# Altium footprint library Connector_PinSocket_2.54mm.PcbLib: 278 footprints (part 14 of 18)
Each footprint in its own frame and in the unit in brackets; x right, y up, seen from the top. Pads: shape width x height; smd on the part's side, far side on the other; paste and mask are expansions set on the pad; w line width, h text height; cw(c..) or ccw(c..) is an arc to the next point about the centre after c.
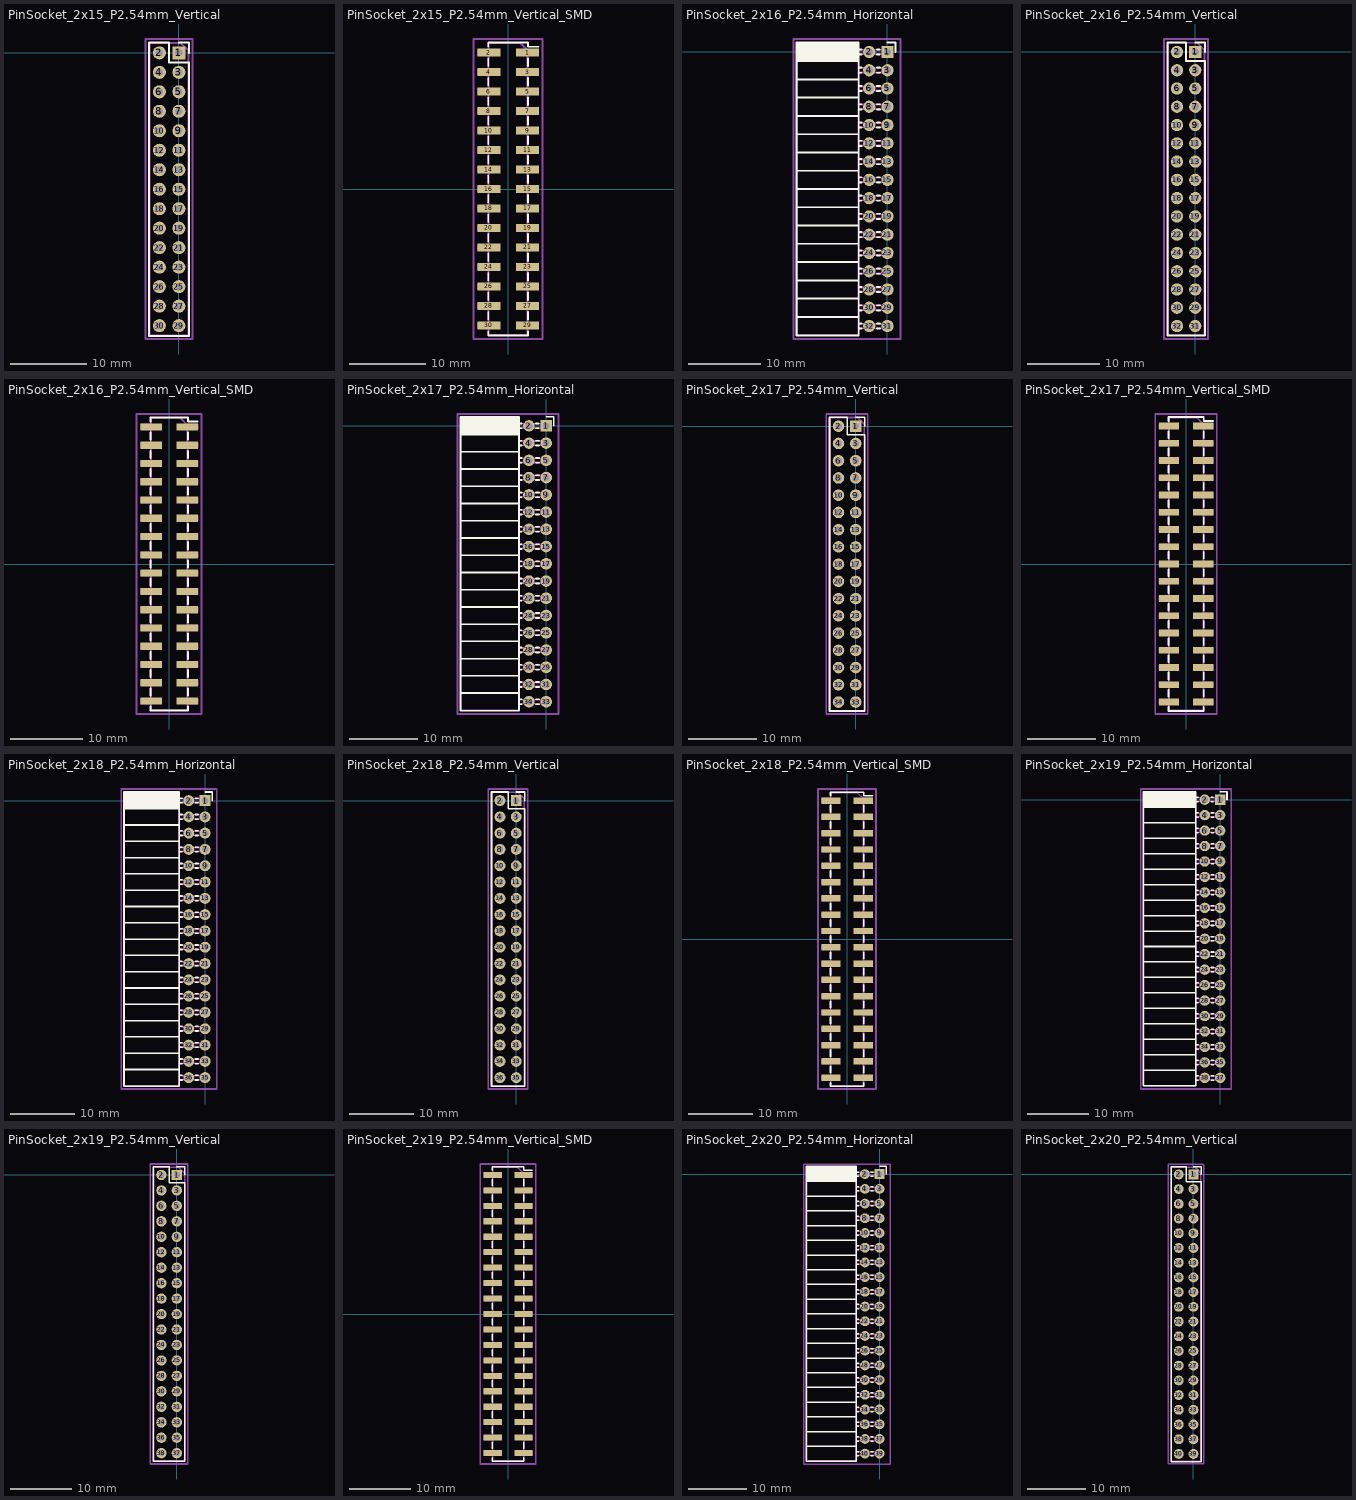
[diagram p13: the footprints below, top view; thin cyan lines are the x and y axes]

## PinSocket_2x15_P2.54mm_Vertical [mm]
pads (30):
  rect 1.7x1.7 hole 1: 1(0,0)
  round 1.7 hole 1: 2(-2.54,0) 3(0,-2.54) 4(-2.54,-2.54) 5(0,-5.08) 6(-2.54,-5.08) 7(0,-7.62) 8(-2.54,-7.62) 9(0,-10.16) 10(-2.54,-10.16) 11(0,-12.7) 12(-2.54,-12.7) 13(0,-15.24) 14(-2.54,-15.24) 15(0,-17.78) 16(-2.54,-17.78) 17(0,-20.32) 18(-2.54,-20.32) 19(0,-22.86) 20(-2.54,-22.86) 21(0,-25.4) 22(-2.54,-25.4) 23(0,-27.94) 24(-2.54,-27.94) 25(0,-30.48) 26(-2.54,-30.48) 27(0,-33.02) 28(-2.54,-33.02) 29(0,-35.56) 30(-2.54,-35.56)
F.SilkS:
  lines w0.254: 0,1.33 1.33,1.33 1.33,0 ; -3.87,-36.89 1.33,-36.89 1.33,-1.27 -1.27,-1.27 -1.27,1.33 -3.87,1.33 -3.87,-36.89
Top Assembly:
  lines w0.254: -3.81,-36.83 1.27,-36.83 1.27,0.27 0.27,1.27 -3.81,1.27 -3.81,-36.83
  text "'.Designator'" at -0.43,-21.827 h1
Top Courtyard:
  lines w0.254: -4.34,-37.3 1.76,-37.3 1.76,1.8 -4.34,1.8 -4.34,-37.3
Top Designator:
  text ".Designator" at -8.908,-18.258 h1.52

## PinSocket_2x15_P2.54mm_Vertical_SMD [mm]
pads (30):
  rect 3x1 smd: 1(2.52,17.78) 2(-2.52,17.78) 3(2.52,15.24) 4(-2.52,15.24) 5(2.52,12.7) 6(-2.52,12.7) 7(2.52,10.16) 8(-2.52,10.16) 9(2.52,7.62) 10(-2.52,7.62) 11(2.52,5.08) 12(-2.52,5.08) 13(2.52,2.54) 14(-2.52,2.54) 15(2.52,0) 16(-2.52,0) 17(2.52,-2.54) 18(-2.52,-2.54) 19(2.52,-5.08) 20(-2.52,-5.08) 21(2.52,-7.62) 22(-2.52,-7.62) 23(2.52,-10.16) 24(-2.52,-10.16) 25(2.52,-12.7) 26(-2.52,-12.7) 27(2.52,-15.24) 28(-2.52,-15.24) 29(2.52,-17.78) 30(-2.52,-17.78)
F.SilkS:
  lines w0.254: -2.6,-18.54 -2.6,-19.11 2.6,-19.11 2.6,-18.54 ; -2.6,-17.02 -2.6,-16 ; -2.6,-14.48 -2.6,-13.46 ; -2.6,-11.94 -2.6,-10.92 ; -2.6,-9.4 -2.6,-8.38 ; -2.6,-6.86 -2.6,-5.84 ; -2.6,-4.32 -2.6,-3.3 ; -2.6,-1.78 -2.6,-0.76 ; -2.6,0.76 -2.6,1.78 ; -2.6,3.3 -2.6,4.32 ; -2.6,5.84 -2.6,6.86 ; -2.6,8.38 -2.6,9.4 ; -2.6,10.92 -2.6,11.94 ; -2.6,13.46 -2.6,14.48 ; -2.6,16 -2.6,17.02 ; -2.6,18.54 -2.6,19.11 2.6,19.11 2.6,18.54 3.96,18.54 ; 2.6,-17.02 2.6,-16 ; 2.6,-14.48 2.6,-13.46 ; 2.6,-11.94 2.6,-10.92 ; 2.6,-9.4 2.6,-8.38 ; 2.6,-6.86 2.6,-5.84 ; 2.6,-4.32 2.6,-3.3 ; 2.6,-1.78 2.6,-0.76 ; 2.6,0.76 2.6,1.78 ; 2.6,3.3 2.6,4.32 ; 2.6,5.84 2.6,6.86 ; 2.6,8.38 2.6,9.4 ; 2.6,10.92 2.6,11.94 ; 2.6,13.46 2.6,14.48 ; 2.6,16 2.6,17.02
Top Assembly:
  lines w0.254: -2.54,-18.1 -3.92,-18.1 -3.92,-17.46 -2.54,-17.46 ; -2.54,-15.56 -3.92,-15.56 -3.92,-14.92 -2.54,-14.92 ; -2.54,-13.02 -3.92,-13.02 -3.92,-12.38 -2.54,-12.38 ; -2.54,-10.48 -3.92,-10.48 -3.92,-9.84 -2.54,-9.84 ; -2.54,-7.94 -3.92,-7.94 -3.92,-7.3 -2.54,-7.3 ; -2.54,-5.4 -3.92,-5.4 -3.92,-4.76 -2.54,-4.76 ; -2.54,-2.86 -3.92,-2.86 -3.92,-2.22 -2.54,-2.22 ; -2.54,-0.32 -3.92,-0.32 -3.92,0.32 -2.54,0.32 ; -2.54,2.22 -3.92,2.22 -3.92,2.86 -2.54,2.86 ; -2.54,4.76 -3.92,4.76 -3.92,5.4 -2.54,5.4 ; -2.54,7.3 -3.92,7.3 -3.92,7.94 -2.54,7.94 ; -2.54,9.84 -3.92,9.84 -3.92,10.48 -2.54,10.48 ; -2.54,12.38 -3.92,12.38 -3.92,13.02 -2.54,13.02 ; -2.54,14.92 -3.92,14.92 -3.92,15.56 -2.54,15.56 ; -2.54,17.46 -3.92,17.46 -3.92,18.1 -2.54,18.1 ; 2.54,-18.1 3.92,-18.1 3.92,-17.46 2.54,-17.46 ; 2.54,-15.56 3.92,-15.56 3.92,-14.92 2.54,-14.92 ; 2.54,-13.02 3.92,-13.02 3.92,-12.38 2.54,-12.38 ; 2.54,-10.48 3.92,-10.48 3.92,-9.84 2.54,-9.84 ; 2.54,-7.94 3.92,-7.94 3.92,-7.3 2.54,-7.3 ; 2.54,-5.4 3.92,-5.4 3.92,-4.76 2.54,-4.76 ; 2.54,-2.86 3.92,-2.86 3.92,-2.22 2.54,-2.22 ; 2.54,-0.32 3.92,-0.32 3.92,0.32 2.54,0.32 ; 2.54,2.22 3.92,2.22 3.92,2.86 2.54,2.86 ; 2.54,4.76 3.92,4.76 3.92,5.4 2.54,5.4 ; 2.54,7.3 3.92,7.3 3.92,7.94 2.54,7.94 ; 2.54,9.84 3.92,9.84 3.92,10.48 2.54,10.48 ; 2.54,12.38 3.92,12.38 3.92,13.02 2.54,13.02 ; 2.54,14.92 3.92,14.92 3.92,15.56 2.54,15.56 ; 2.54,17.46 3.92,17.46 3.92,18.1 2.54,18.1 ; -2.54,-19.05 2.54,-19.05 2.54,18.05 1.54,19.05 -2.54,19.05 -2.54,-19.05
  text "'.Designator'" at 0.84,-4.047 h1
Top Courtyard:
  lines w0.254: -4.55,-19.55 4.5,-19.55 4.5,19.55 -4.55,19.55 -4.55,-19.55
Top Designator:
  text ".Designator" at -7.643,-0.508 h1.52

## PinSocket_2x16_P2.54mm_Horizontal [mm]
pads (32):
  rect 1.7x1.7 hole 1: 1(0,0)
  round 1.7 hole 1: 2(-2.54,0) 3(0,-2.54) 4(-2.54,-2.54) 5(0,-5.08) 6(-2.54,-5.08) 7(0,-7.62) 8(-2.54,-7.62) 9(0,-10.16) 10(-2.54,-10.16) 11(0,-12.7) 12(-2.54,-12.7) 13(0,-15.24) 14(-2.54,-15.24) 15(0,-17.78) 16(-2.54,-17.78) 17(0,-20.32) 18(-2.54,-20.32) 19(0,-22.86) 20(-2.54,-22.86) 21(0,-25.4) 22(-2.54,-25.4) 23(0,-27.94) 24(-2.54,-27.94) 25(0,-30.48) 26(-2.54,-30.48) 27(0,-33.02) 28(-2.54,-33.02) 29(0,-35.56) 30(-2.54,-35.56) 31(0,-38.1) 32(-2.54,-38.1)
F.SilkS:
  lines w0.254: -12.63,-36.83 -4,-36.83 ; -12.63,-34.29 -4,-34.29 ; -12.63,-31.75 -4,-31.75 ; -12.63,-29.21 -4,-29.21 ; -12.63,-26.67 -4,-26.67 ; -12.63,-24.13 -4,-24.13 ; -12.63,-21.59 -4,-21.59 ; -12.63,-19.05 -4,-19.05 ; -12.63,-16.51 -4,-16.51 ; -12.63,-13.97 -4,-13.97 ; -12.63,-11.43 -4,-11.43 ; -12.63,-8.89 -4,-8.89 ; -12.63,-6.35 -4,-6.35 ; -12.63,-3.81 -4,-3.81 ; -12.63,-1.27 -4,-1.27 ; -12.63,-1.152 -4,-1.152 ; -12.63,-1.034 -4,-1.034 ; -12.63,-0.916 -4,-0.916 ; -12.63,-0.798 -4,-0.798 ; -12.63,-0.68 -4,-0.68 ; -12.63,-0.561 -4,-0.561 ; -12.63,-0.443 -4,-0.443 ; -12.63,-0.325 -4,-0.325 ; -12.63,-0.207 -4,-0.207 ; -12.63,-0.089 -4,-0.089 ; -12.63,0.029 -4,0.029 ; -12.63,0.147 -4,0.147 ; -12.63,0.265 -4,0.265 ; -12.63,0.383 -4,0.383 ; -12.63,0.501 -4,0.501 ; -12.63,0.62 -4,0.62 ; -12.63,0.738 -4,0.738 ; -12.63,0.856 -4,0.856 ; -12.63,0.974 -4,0.974 ; -12.63,1.092 -4,1.092 ; -12.63,1.21 -4,1.21 ; -4,-38.46 -3.59,-38.46 ; -4,-37.74 -3.59,-37.74 ; -4,-35.92 -3.59,-35.92 ; -4,-35.2 -3.59,-35.2 ; -4,-33.38 -3.59,-33.38 ; -4,-32.66 -3.59,-32.66 ; -4,-30.84 -3.59,-30.84 ; -4,-30.12 -3.59,-30.12 ; -4,-28.3 -3.59,-28.3 ; -4,-27.58 -3.59,-27.58 ; -4,-25.76 -3.59,-25.76 ; -4,-25.04 -3.59,-25.04 ; -4,-23.22 -3.59,-23.22 ; -4,-22.5 -3.59,-22.5 ; -4,-20.68 -3.59,-20.68 ; -4,-19.96 -3.59,-19.96 ; -4,-18.14 -3.59,-18.14 ; -4,-17.42 -3.59,-17.42 ; -4,-15.6 -3.59,-15.6 ; -4,-14.88 -3.59,-14.88 ; -4,-13.06 -3.59,-13.06 ; -4,-12.34 -3.59,-12.34 ; -4,-10.52 -3.59,-10.52 ; -4,-9.8 -3.59,-9.8 ; -4,-7.98 -3.59,-7.98 ; -4,-7.26 -3.59,-7.26 ; -4,-5.44 -3.59,-5.44 ; -4,-4.72 -3.59,-4.72 ; -4,-2.9 -3.59,-2.9 ; -4,-2.18 -3.59,-2.18 ; -4,-0.36 -3.59,-0.36 ; -4,0.36 -3.59,0.36 ; -1.49,-38.46 -1.05,-38.46 ; -1.49,-37.74 -1.05,-37.74 ; -1.49,-35.92 -1.05,-35.92 ; -1.49,-35.2 -1.05,-35.2 ; -1.49,-33.38 -1.05,-33.38 ; -1.49,-32.66 -1.05,-32.66 ; -1.49,-30.84 -1.05,-30.84 ; -1.49,-30.12 -1.05,-30.12 ; -1.49,-28.3 -1.05,-28.3 ; -1.49,-27.58 -1.05,-27.58 ; -1.49,-25.76 -1.05,-25.76 ; -1.49,-25.04 -1.05,-25.04 ; -1.49,-23.22 -1.05,-23.22 ; -1.49,-22.5 -1.05,-22.5 ; -1.49,-20.68 -1.05,-20.68 ; -1.49,-19.96 -1.05,-19.96 ; -1.49,-18.14 -1.05,-18.14 ; -1.49,-17.42 -1.05,-17.42 ; -1.49,-15.6 -1.05,-15.6 ; -1.49,-14.88 -1.05,-14.88 ; -1.49,-13.06 -1.05,-13.06 ; -1.49,-12.34 -1.05,-12.34 ; -1.49,-10.52 -1.05,-10.52 ; -1.49,-9.8 -1.05,-9.8 ; -1.49,-7.98 -1.05,-7.98 ; -1.49,-7.26 -1.05,-7.26 ; -1.49,-5.44 -1.05,-5.44 ; -1.49,-4.72 -1.05,-4.72 ; -1.49,-2.9 -1.05,-2.9 ; -1.49,-2.18 -1.05,-2.18 ; -1.49,-0.36 -1.11,-0.36 ; -1.49,0.36 -1.11,0.36 ; 0,1.33 1.11,1.33 1.11,0 ; -12.63,-39.43 -4,-39.43 -4,1.33 -12.63,1.33 -12.63,-39.43
Top Assembly:
  lines w0.254: -4.06,-38.4 0,-38.4 0,-37.8 -4.06,-37.8 ; -4.06,-35.86 0,-35.86 0,-35.26 -4.06,-35.26 ; -4.06,-33.32 0,-33.32 0,-32.72 -4.06,-32.72 ; -4.06,-30.78 0,-30.78 0,-30.18 -4.06,-30.18 ; -4.06,-28.24 0,-28.24 0,-27.64 -4.06,-27.64 ; -4.06,-25.7 0,-25.7 0,-25.1 -4.06,-25.1 ; -4.06,-23.16 0,-23.16 0,-22.56 -4.06,-22.56 ; -4.06,-20.62 0,-20.62 0,-20.02 -4.06,-20.02 ; -4.06,-18.08 0,-18.08 0,-17.48 -4.06,-17.48 ; -4.06,-15.54 0,-15.54 0,-14.94 -4.06,-14.94 ; -4.06,-13 0,-13 0,-12.4 -4.06,-12.4 ; -4.06,-10.46 0,-10.46 0,-9.86 -4.06,-9.86 ; -4.06,-7.92 0,-7.92 0,-7.32 -4.06,-7.32 ; -4.06,-5.38 0,-5.38 0,-4.78 -4.06,-4.78 ; -4.06,-2.84 0,-2.84 0,-2.24 -4.06,-2.24 ; -4.06,-0.3 0,-0.3 0,0.3 -4.06,0.3 ; -4.06,0.3 -4.06,-39.37 -12.57,-39.37 -12.57,1.27 -5.03,1.27 -4.06,0.3
  text "'.Designator'" at -7.475,-23.097 h1
Top Courtyard:
  lines w0.254: -13.05,-39.9 1.8,-39.9 1.8,1.8 -13.05,1.8 -13.05,-39.9
Top Designator:
  text ".Designator" at -13.243,-19.558 h1.52

## PinSocket_2x16_P2.54mm_Vertical [mm]
pads (32):
  rect 1.7x1.7 hole 1: 1(0,0)
  round 1.7 hole 1: 2(-2.54,0) 3(0,-2.54) 4(-2.54,-2.54) 5(0,-5.08) 6(-2.54,-5.08) 7(0,-7.62) 8(-2.54,-7.62) 9(0,-10.16) 10(-2.54,-10.16) 11(0,-12.7) 12(-2.54,-12.7) 13(0,-15.24) 14(-2.54,-15.24) 15(0,-17.78) 16(-2.54,-17.78) 17(0,-20.32) 18(-2.54,-20.32) 19(0,-22.86) 20(-2.54,-22.86) 21(0,-25.4) 22(-2.54,-25.4) 23(0,-27.94) 24(-2.54,-27.94) 25(0,-30.48) 26(-2.54,-30.48) 27(0,-33.02) 28(-2.54,-33.02) 29(0,-35.56) 30(-2.54,-35.56) 31(0,-38.1) 32(-2.54,-38.1)
F.SilkS:
  lines w0.254: 0,1.33 1.33,1.33 1.33,0 ; -3.87,-39.43 1.33,-39.43 1.33,-1.27 -1.27,-1.27 -1.27,1.33 -3.87,1.33 -3.87,-39.43
Top Assembly:
  lines w0.254: -3.81,-39.37 1.27,-39.37 1.27,0.27 0.27,1.27 -3.81,1.27 -3.81,-39.37
  text "'.Designator'" at -0.43,-23.097 h1
Top Courtyard:
  lines w0.254: -4.34,-39.9 1.76,-39.9 1.76,1.8 -4.34,1.8 -4.34,-39.9
Top Designator:
  text ".Designator" at -8.908,-19.558 h1.52

## PinSocket_2x16_P2.54mm_Vertical_SMD [mm]
pads (32):
  rect 3x1 smd: 1(2.52,19.05) 2(-2.52,19.05) 3(2.52,16.51) 4(-2.52,16.51) 5(2.52,13.97) 6(-2.52,13.97) 7(2.52,11.43) 8(-2.52,11.43) 9(2.52,8.89) 10(-2.52,8.89) 11(2.52,6.35) 12(-2.52,6.35) 13(2.52,3.81) 14(-2.52,3.81) 15(2.52,1.27) 16(-2.52,1.27) 17(2.52,-1.27) 18(-2.52,-1.27) 19(2.52,-3.81) 20(-2.52,-3.81) 21(2.52,-6.35) 22(-2.52,-6.35) 23(2.52,-8.89) 24(-2.52,-8.89) 25(2.52,-11.43) 26(-2.52,-11.43) 27(2.52,-13.97) 28(-2.52,-13.97) 29(2.52,-16.51) 30(-2.52,-16.51) 31(2.52,-19.05) 32(-2.52,-19.05)
F.SilkS:
  lines w0.254: -2.6,-19.81 -2.6,-20.38 2.6,-20.38 2.6,-19.81 ; -2.6,-18.29 -2.6,-17.27 ; -2.6,-15.75 -2.6,-14.73 ; -2.6,-13.21 -2.6,-12.19 ; -2.6,-10.67 -2.6,-9.65 ; -2.6,-8.13 -2.6,-7.11 ; -2.6,-5.59 -2.6,-4.57 ; -2.6,-3.05 -2.6,-2.03 ; -2.6,-0.51 -2.6,0.51 ; -2.6,2.03 -2.6,3.05 ; -2.6,4.57 -2.6,5.59 ; -2.6,7.11 -2.6,8.13 ; -2.6,9.65 -2.6,10.67 ; -2.6,12.19 -2.6,13.21 ; -2.6,14.73 -2.6,15.75 ; -2.6,17.27 -2.6,18.29 ; -2.6,19.81 -2.6,20.38 2.6,20.38 2.6,19.81 3.96,19.81 ; 2.6,-18.29 2.6,-17.27 ; 2.6,-15.75 2.6,-14.73 ; 2.6,-13.21 2.6,-12.19 ; 2.6,-10.67 2.6,-9.65 ; 2.6,-8.13 2.6,-7.11 ; 2.6,-5.59 2.6,-4.57 ; 2.6,-3.05 2.6,-2.03 ; 2.6,-0.51 2.6,0.51 ; 2.6,2.03 2.6,3.05 ; 2.6,4.57 2.6,5.59 ; 2.6,7.11 2.6,8.13 ; 2.6,9.65 2.6,10.67 ; 2.6,12.19 2.6,13.21 ; 2.6,14.73 2.6,15.75 ; 2.6,17.27 2.6,18.29
Top Assembly:
  lines w0.254: -2.54,-19.37 -3.92,-19.37 -3.92,-18.73 -2.54,-18.73 ; -2.54,-16.83 -3.92,-16.83 -3.92,-16.19 -2.54,-16.19 ; -2.54,-14.29 -3.92,-14.29 -3.92,-13.65 -2.54,-13.65 ; -2.54,-11.75 -3.92,-11.75 -3.92,-11.11 -2.54,-11.11 ; -2.54,-9.21 -3.92,-9.21 -3.92,-8.57 -2.54,-8.57 ; -2.54,-6.67 -3.92,-6.67 -3.92,-6.03 -2.54,-6.03 ; -2.54,-4.13 -3.92,-4.13 -3.92,-3.49 -2.54,-3.49 ; -2.54,-1.59 -3.92,-1.59 -3.92,-0.95 -2.54,-0.95 ; -2.54,0.95 -3.92,0.95 -3.92,1.59 -2.54,1.59 ; -2.54,3.49 -3.92,3.49 -3.92,4.13 -2.54,4.13 ; -2.54,6.03 -3.92,6.03 -3.92,6.67 -2.54,6.67 ; -2.54,8.57 -3.92,8.57 -3.92,9.21 -2.54,9.21 ; -2.54,11.11 -3.92,11.11 -3.92,11.75 -2.54,11.75 ; -2.54,13.65 -3.92,13.65 -3.92,14.29 -2.54,14.29 ; -2.54,16.19 -3.92,16.19 -3.92,16.83 -2.54,16.83 ; -2.54,18.73 -3.92,18.73 -3.92,19.37 -2.54,19.37 ; 2.54,-19.37 3.92,-19.37 3.92,-18.73 2.54,-18.73 ; 2.54,-16.83 3.92,-16.83 3.92,-16.19 2.54,-16.19 ; 2.54,-14.29 3.92,-14.29 3.92,-13.65 2.54,-13.65 ; 2.54,-11.75 3.92,-11.75 3.92,-11.11 2.54,-11.11 ; 2.54,-9.21 3.92,-9.21 3.92,-8.57 2.54,-8.57 ; 2.54,-6.67 3.92,-6.67 3.92,-6.03 2.54,-6.03 ; 2.54,-4.13 3.92,-4.13 3.92,-3.49 2.54,-3.49 ; 2.54,-1.59 3.92,-1.59 3.92,-0.95 2.54,-0.95 ; 2.54,0.95 3.92,0.95 3.92,1.59 2.54,1.59 ; 2.54,3.49 3.92,3.49 3.92,4.13 2.54,4.13 ; 2.54,6.03 3.92,6.03 3.92,6.67 2.54,6.67 ; 2.54,8.57 3.92,8.57 3.92,9.21 2.54,9.21 ; 2.54,11.11 3.92,11.11 3.92,11.75 2.54,11.75 ; 2.54,13.65 3.92,13.65 3.92,14.29 2.54,14.29 ; 2.54,16.19 3.92,16.19 3.92,16.83 2.54,16.83 ; 2.54,18.73 3.92,18.73 3.92,19.37 2.54,19.37 ; -2.54,-20.32 2.54,-20.32 2.54,19.32 1.54,20.32 -2.54,20.32 -2.54,-20.32
  text "'.Designator'" at 0.84,-4.047 h1
Top Courtyard:
  lines w0.254: -4.55,-20.85 4.5,-20.85 4.5,20.85 -4.55,20.85 -4.55,-20.85
Top Designator:
  text ".Designator" at -7.643,-0.508 h1.52

## PinSocket_2x17_P2.54mm_Horizontal [mm]
pads (34):
  rect 1.7x1.7 hole 1: 1(0,0)
  round 1.7 hole 1: 2(-2.54,0) 3(0,-2.54) 4(-2.54,-2.54) 5(0,-5.08) 6(-2.54,-5.08) 7(0,-7.62) 8(-2.54,-7.62) 9(0,-10.16) 10(-2.54,-10.16) 11(0,-12.7) 12(-2.54,-12.7) 13(0,-15.24) 14(-2.54,-15.24) 15(0,-17.78) 16(-2.54,-17.78) 17(0,-20.32) 18(-2.54,-20.32) 19(0,-22.86) 20(-2.54,-22.86) 21(0,-25.4) 22(-2.54,-25.4) 23(0,-27.94) 24(-2.54,-27.94) 25(0,-30.48) 26(-2.54,-30.48) 27(0,-33.02) 28(-2.54,-33.02) 29(0,-35.56) 30(-2.54,-35.56) 31(0,-38.1) 32(-2.54,-38.1) 33(0,-40.64) 34(-2.54,-40.64)
F.SilkS:
  lines w0.254: -12.63,-39.37 -4,-39.37 ; -12.63,-36.83 -4,-36.83 ; -12.63,-34.29 -4,-34.29 ; -12.63,-31.75 -4,-31.75 ; -12.63,-29.21 -4,-29.21 ; -12.63,-26.67 -4,-26.67 ; -12.63,-24.13 -4,-24.13 ; -12.63,-21.59 -4,-21.59 ; -12.63,-19.05 -4,-19.05 ; -12.63,-16.51 -4,-16.51 ; -12.63,-13.97 -4,-13.97 ; -12.63,-11.43 -4,-11.43 ; -12.63,-8.89 -4,-8.89 ; -12.63,-6.35 -4,-6.35 ; -12.63,-3.81 -4,-3.81 ; -12.63,-1.27 -4,-1.27 ; -12.63,-1.152 -4,-1.152 ; -12.63,-1.034 -4,-1.034 ; -12.63,-0.916 -4,-0.916 ; -12.63,-0.798 -4,-0.798 ; -12.63,-0.68 -4,-0.68 ; -12.63,-0.561 -4,-0.561 ; -12.63,-0.443 -4,-0.443 ; -12.63,-0.325 -4,-0.325 ; -12.63,-0.207 -4,-0.207 ; -12.63,-0.089 -4,-0.089 ; -12.63,0.029 -4,0.029 ; -12.63,0.147 -4,0.147 ; -12.63,0.265 -4,0.265 ; -12.63,0.383 -4,0.383 ; -12.63,0.501 -4,0.501 ; -12.63,0.62 -4,0.62 ; -12.63,0.738 -4,0.738 ; -12.63,0.856 -4,0.856 ; -12.63,0.974 -4,0.974 ; -12.63,1.092 -4,1.092 ; -12.63,1.21 -4,1.21 ; -4,-41 -3.59,-41 ; -4,-40.28 -3.59,-40.28 ; -4,-38.46 -3.59,-38.46 ; -4,-37.74 -3.59,-37.74 ; -4,-35.92 -3.59,-35.92 ; -4,-35.2 -3.59,-35.2 ; -4,-33.38 -3.59,-33.38 ; -4,-32.66 -3.59,-32.66 ; -4,-30.84 -3.59,-30.84 ; -4,-30.12 -3.59,-30.12 ; -4,-28.3 -3.59,-28.3 ; -4,-27.58 -3.59,-27.58 ; -4,-25.76 -3.59,-25.76 ; -4,-25.04 -3.59,-25.04 ; -4,-23.22 -3.59,-23.22 ; -4,-22.5 -3.59,-22.5 ; -4,-20.68 -3.59,-20.68 ; -4,-19.96 -3.59,-19.96 ; -4,-18.14 -3.59,-18.14 ; -4,-17.42 -3.59,-17.42 ; -4,-15.6 -3.59,-15.6 ; -4,-14.88 -3.59,-14.88 ; -4,-13.06 -3.59,-13.06 ; -4,-12.34 -3.59,-12.34 ; -4,-10.52 -3.59,-10.52 ; -4,-9.8 -3.59,-9.8 ; -4,-7.98 -3.59,-7.98 ; -4,-7.26 -3.59,-7.26 ; -4,-5.44 -3.59,-5.44 ; -4,-4.72 -3.59,-4.72 ; -4,-2.9 -3.59,-2.9 ; -4,-2.18 -3.59,-2.18 ; -4,-0.36 -3.59,-0.36 ; -4,0.36 -3.59,0.36 ; -1.49,-41 -1.05,-41 ; -1.49,-40.28 -1.05,-40.28 ; -1.49,-38.46 -1.05,-38.46 ; -1.49,-37.74 -1.05,-37.74 ; -1.49,-35.92 -1.05,-35.92 ; -1.49,-35.2 -1.05,-35.2 ; -1.49,-33.38 -1.05,-33.38 ; -1.49,-32.66 -1.05,-32.66 ; -1.49,-30.84 -1.05,-30.84 ; -1.49,-30.12 -1.05,-30.12 ; -1.49,-28.3 -1.05,-28.3 ; -1.49,-27.58 -1.05,-27.58 ; -1.49,-25.76 -1.05,-25.76 ; -1.49,-25.04 -1.05,-25.04 ; -1.49,-23.22 -1.05,-23.22 ; -1.49,-22.5 -1.05,-22.5 ; -1.49,-20.68 -1.05,-20.68 ; -1.49,-19.96 -1.05,-19.96 ; -1.49,-18.14 -1.05,-18.14 ; -1.49,-17.42 -1.05,-17.42 ; -1.49,-15.6 -1.05,-15.6 ; -1.49,-14.88 -1.05,-14.88 ; -1.49,-13.06 -1.05,-13.06 ; -1.49,-12.34 -1.05,-12.34 ; -1.49,-10.52 -1.05,-10.52 ; -1.49,-9.8 -1.05,-9.8 ; -1.49,-7.98 -1.05,-7.98 ; -1.49,-7.26 -1.05,-7.26 ; -1.49,-5.44 -1.05,-5.44 ; -1.49,-4.72 -1.05,-4.72 ; -1.49,-2.9 -1.05,-2.9 ; -1.49,-2.18 -1.05,-2.18 ; -1.49,-0.36 -1.11,-0.36 ; -1.49,0.36 -1.11,0.36 ; 0,1.33 1.11,1.33 1.11,0 ; -12.63,-41.97 -4,-41.97 -4,1.33 -12.63,1.33 -12.63,-41.97
Top Assembly:
  lines w0.254: -4.06,-40.94 0,-40.94 0,-40.34 -4.06,-40.34 ; -4.06,-38.4 0,-38.4 0,-37.8 -4.06,-37.8 ; -4.06,-35.86 0,-35.86 0,-35.26 -4.06,-35.26 ; -4.06,-33.32 0,-33.32 0,-32.72 -4.06,-32.72 ; -4.06,-30.78 0,-30.78 0,-30.18 -4.06,-30.18 ; -4.06,-28.24 0,-28.24 0,-27.64 -4.06,-27.64 ; -4.06,-25.7 0,-25.7 0,-25.1 -4.06,-25.1 ; -4.06,-23.16 0,-23.16 0,-22.56 -4.06,-22.56 ; -4.06,-20.62 0,-20.62 0,-20.02 -4.06,-20.02 ; -4.06,-18.08 0,-18.08 0,-17.48 -4.06,-17.48 ; -4.06,-15.54 0,-15.54 0,-14.94 -4.06,-14.94 ; -4.06,-13 0,-13 0,-12.4 -4.06,-12.4 ; -4.06,-10.46 0,-10.46 0,-9.86 -4.06,-9.86 ; -4.06,-7.92 0,-7.92 0,-7.32 -4.06,-7.32 ; -4.06,-5.38 0,-5.38 0,-4.78 -4.06,-4.78 ; -4.06,-2.84 0,-2.84 0,-2.24 -4.06,-2.24 ; -4.06,-0.3 0,-0.3 0,0.3 -4.06,0.3 ; -4.06,0.3 -4.06,-41.91 -12.57,-41.91 -12.57,1.27 -5.03,1.27 -4.06,0.3
  text "'.Designator'" at -7.475,-24.367 h1
Top Courtyard:
  lines w0.254: -13.05,-42.45 1.8,-42.45 1.8,1.75 -13.05,1.75 -13.05,-42.45
Top Designator:
  text ".Designator" at -13.243,-20.858 h1.52

## PinSocket_2x17_P2.54mm_Vertical [mm]
pads (34):
  rect 1.7x1.7 hole 1: 1(0,0)
  round 1.7 hole 1: 2(-2.54,0) 3(0,-2.54) 4(-2.54,-2.54) 5(0,-5.08) 6(-2.54,-5.08) 7(0,-7.62) 8(-2.54,-7.62) 9(0,-10.16) 10(-2.54,-10.16) 11(0,-12.7) 12(-2.54,-12.7) 13(0,-15.24) 14(-2.54,-15.24) 15(0,-17.78) 16(-2.54,-17.78) 17(0,-20.32) 18(-2.54,-20.32) 19(0,-22.86) 20(-2.54,-22.86) 21(0,-25.4) 22(-2.54,-25.4) 23(0,-27.94) 24(-2.54,-27.94) 25(0,-30.48) 26(-2.54,-30.48) 27(0,-33.02) 28(-2.54,-33.02) 29(0,-35.56) 30(-2.54,-35.56) 31(0,-38.1) 32(-2.54,-38.1) 33(0,-40.64) 34(-2.54,-40.64)
F.SilkS:
  lines w0.254: 0,1.33 1.33,1.33 1.33,0 ; -3.87,-41.97 1.33,-41.97 1.33,-1.27 -1.27,-1.27 -1.27,1.33 -3.87,1.33 -3.87,-41.97
Top Assembly:
  lines w0.254: -3.81,-41.91 1.27,-41.91 1.27,0.27 0.27,1.27 -3.81,1.27 -3.81,-41.91
  text "'.Designator'" at -0.43,-24.367 h1
Top Courtyard:
  lines w0.254: -4.34,-42.4 1.76,-42.4 1.76,1.8 -4.34,1.8 -4.34,-42.4
Top Designator:
  text ".Designator" at -8.908,-20.808 h1.52

## PinSocket_2x17_P2.54mm_Vertical_SMD [mm]
pads (34):
  rect 3x1 smd: 1(2.52,20.32) 2(-2.52,20.32) 3(2.52,17.78) 4(-2.52,17.78) 5(2.52,15.24) 6(-2.52,15.24) 7(2.52,12.7) 8(-2.52,12.7) 9(2.52,10.16) 10(-2.52,10.16) 11(2.52,7.62) 12(-2.52,7.62) 13(2.52,5.08) 14(-2.52,5.08) 15(2.52,2.54) 16(-2.52,2.54) 17(2.52,0) 18(-2.52,0) 19(2.52,-2.54) 20(-2.52,-2.54) 21(2.52,-5.08) 22(-2.52,-5.08) 23(2.52,-7.62) 24(-2.52,-7.62) 25(2.52,-10.16) 26(-2.52,-10.16) 27(2.52,-12.7) 28(-2.52,-12.7) 29(2.52,-15.24) 30(-2.52,-15.24) 31(2.52,-17.78) 32(-2.52,-17.78) 33(2.52,-20.32) 34(-2.52,-20.32)
F.SilkS:
  lines w0.254: -2.6,-21.08 -2.6,-21.65 2.6,-21.65 2.6,-21.08 ; -2.6,-19.56 -2.6,-18.54 ; -2.6,-17.02 -2.6,-16 ; -2.6,-14.48 -2.6,-13.46 ; -2.6,-11.94 -2.6,-10.92 ; -2.6,-9.4 -2.6,-8.38 ; -2.6,-6.86 -2.6,-5.84 ; -2.6,-4.32 -2.6,-3.3 ; -2.6,-1.78 -2.6,-0.76 ; -2.6,0.76 -2.6,1.78 ; -2.6,3.3 -2.6,4.32 ; -2.6,5.84 -2.6,6.86 ; -2.6,8.38 -2.6,9.4 ; -2.6,10.92 -2.6,11.94 ; -2.6,13.46 -2.6,14.48 ; -2.6,16 -2.6,17.02 ; -2.6,18.54 -2.6,19.56 ; -2.6,21.08 -2.6,21.65 2.6,21.65 2.6,21.08 3.96,21.08 ; 2.6,-19.56 2.6,-18.54 ; 2.6,-17.02 2.6,-16 ; 2.6,-14.48 2.6,-13.46 ; 2.6,-11.94 2.6,-10.92 ; 2.6,-9.4 2.6,-8.38 ; 2.6,-6.86 2.6,-5.84 ; 2.6,-4.32 2.6,-3.3 ; 2.6,-1.78 2.6,-0.76 ; 2.6,0.76 2.6,1.78 ; 2.6,3.3 2.6,4.32 ; 2.6,5.84 2.6,6.86 ; 2.6,8.38 2.6,9.4 ; 2.6,10.92 2.6,11.94 ; 2.6,13.46 2.6,14.48 ; 2.6,16 2.6,17.02 ; 2.6,18.54 2.6,19.56
Top Assembly:
  lines w0.254: -2.54,-20.64 -3.92,-20.64 -3.92,-20 -2.54,-20 ; -2.54,-18.1 -3.92,-18.1 -3.92,-17.46 -2.54,-17.46 ; -2.54,-15.56 -3.92,-15.56 -3.92,-14.92 -2.54,-14.92 ; -2.54,-13.02 -3.92,-13.02 -3.92,-12.38 -2.54,-12.38 ; -2.54,-10.48 -3.92,-10.48 -3.92,-9.84 -2.54,-9.84 ; -2.54,-7.94 -3.92,-7.94 -3.92,-7.3 -2.54,-7.3 ; -2.54,-5.4 -3.92,-5.4 -3.92,-4.76 -2.54,-4.76 ; -2.54,-2.86 -3.92,-2.86 -3.92,-2.22 -2.54,-2.22 ; -2.54,-0.32 -3.92,-0.32 -3.92,0.32 -2.54,0.32 ; -2.54,2.22 -3.92,2.22 -3.92,2.86 -2.54,2.86 ; -2.54,4.76 -3.92,4.76 -3.92,5.4 -2.54,5.4 ; -2.54,7.3 -3.92,7.3 -3.92,7.94 -2.54,7.94 ; -2.54,9.84 -3.92,9.84 -3.92,10.48 -2.54,10.48 ; -2.54,12.38 -3.92,12.38 -3.92,13.02 -2.54,13.02 ; -2.54,14.92 -3.92,14.92 -3.92,15.56 -2.54,15.56 ; -2.54,17.46 -3.92,17.46 -3.92,18.1 -2.54,18.1 ; -2.54,20 -3.92,20 -3.92,20.64 -2.54,20.64 ; 2.54,-20.64 3.92,-20.64 3.92,-20 2.54,-20 ; 2.54,-18.1 3.92,-18.1 3.92,-17.46 2.54,-17.46 ; 2.54,-15.56 3.92,-15.56 3.92,-14.92 2.54,-14.92 ; 2.54,-13.02 3.92,-13.02 3.92,-12.38 2.54,-12.38 ; 2.54,-10.48 3.92,-10.48 3.92,-9.84 2.54,-9.84 ; 2.54,-7.94 3.92,-7.94 3.92,-7.3 2.54,-7.3 ; 2.54,-5.4 3.92,-5.4 3.92,-4.76 2.54,-4.76 ; 2.54,-2.86 3.92,-2.86 3.92,-2.22 2.54,-2.22 ; 2.54,-0.32 3.92,-0.32 3.92,0.32 2.54,0.32 ; 2.54,2.22 3.92,2.22 3.92,2.86 2.54,2.86 ; 2.54,4.76 3.92,4.76 3.92,5.4 2.54,5.4 ; 2.54,7.3 3.92,7.3 3.92,7.94 2.54,7.94 ; 2.54,9.84 3.92,9.84 3.92,10.48 2.54,10.48 ; 2.54,12.38 3.92,12.38 3.92,13.02 2.54,13.02 ; 2.54,14.92 3.92,14.92 3.92,15.56 2.54,15.56 ; 2.54,17.46 3.92,17.46 3.92,18.1 2.54,18.1 ; 2.54,20 3.92,20 3.92,20.64 2.54,20.64 ; -2.54,-21.59 2.54,-21.59 2.54,20.59 1.54,21.59 -2.54,21.59 -2.54,-21.59
  text "'.Designator'" at 0.84,-4.047 h1
Top Courtyard:
  lines w0.254: -4.55,-22.1 4.5,-22.1 4.5,22.1 -4.55,22.1 -4.55,-22.1
Top Designator:
  text ".Designator" at -7.643,-0.508 h1.52

## PinSocket_2x18_P2.54mm_Horizontal [mm]
pads (36):
  rect 1.7x1.7 hole 1: 1(0,0)
  round 1.7 hole 1: 2(-2.54,0) 3(0,-2.54) 4(-2.54,-2.54) 5(0,-5.08) 6(-2.54,-5.08) 7(0,-7.62) 8(-2.54,-7.62) 9(0,-10.16) 10(-2.54,-10.16) 11(0,-12.7) 12(-2.54,-12.7) 13(0,-15.24) 14(-2.54,-15.24) 15(0,-17.78) 16(-2.54,-17.78) 17(0,-20.32) 18(-2.54,-20.32) 19(0,-22.86) 20(-2.54,-22.86) 21(0,-25.4) 22(-2.54,-25.4) 23(0,-27.94) 24(-2.54,-27.94) 25(0,-30.48) 26(-2.54,-30.48) 27(0,-33.02) 28(-2.54,-33.02) 29(0,-35.56) 30(-2.54,-35.56) 31(0,-38.1) 32(-2.54,-38.1) 33(0,-40.64) 34(-2.54,-40.64) 35(0,-43.18) 36(-2.54,-43.18)
F.SilkS:
  lines w0.254: -12.63,-41.91 -4,-41.91 ; -12.63,-39.37 -4,-39.37 ; -12.63,-36.83 -4,-36.83 ; -12.63,-34.29 -4,-34.29 ; -12.63,-31.75 -4,-31.75 ; -12.63,-29.21 -4,-29.21 ; -12.63,-26.67 -4,-26.67 ; -12.63,-24.13 -4,-24.13 ; -12.63,-21.59 -4,-21.59 ; -12.63,-19.05 -4,-19.05 ; -12.63,-16.51 -4,-16.51 ; -12.63,-13.97 -4,-13.97 ; -12.63,-11.43 -4,-11.43 ; -12.63,-8.89 -4,-8.89 ; -12.63,-6.35 -4,-6.35 ; -12.63,-3.81 -4,-3.81 ; -12.63,-1.27 -4,-1.27 ; -12.63,-1.152 -4,-1.152 ; -12.63,-1.034 -4,-1.034 ; -12.63,-0.916 -4,-0.916 ; -12.63,-0.798 -4,-0.798 ; -12.63,-0.68 -4,-0.68 ; -12.63,-0.561 -4,-0.561 ; -12.63,-0.443 -4,-0.443 ; -12.63,-0.325 -4,-0.325 ; -12.63,-0.207 -4,-0.207 ; -12.63,-0.089 -4,-0.089 ; -12.63,0.029 -4,0.029 ; -12.63,0.147 -4,0.147 ; -12.63,0.265 -4,0.265 ; -12.63,0.383 -4,0.383 ; -12.63,0.501 -4,0.501 ; -12.63,0.62 -4,0.62 ; -12.63,0.738 -4,0.738 ; -12.63,0.856 -4,0.856 ; -12.63,0.974 -4,0.974 ; -12.63,1.092 -4,1.092 ; -12.63,1.21 -4,1.21 ; -4,-43.54 -3.59,-43.54 ; -4,-42.82 -3.59,-42.82 ; -4,-41 -3.59,-41 ; -4,-40.28 -3.59,-40.28 ; -4,-38.46 -3.59,-38.46 ; -4,-37.74 -3.59,-37.74 ; -4,-35.92 -3.59,-35.92 ; -4,-35.2 -3.59,-35.2 ; -4,-33.38 -3.59,-33.38 ; -4,-32.66 -3.59,-32.66 ; -4,-30.84 -3.59,-30.84 ; -4,-30.12 -3.59,-30.12 ; -4,-28.3 -3.59,-28.3 ; -4,-27.58 -3.59,-27.58 ; -4,-25.76 -3.59,-25.76 ; -4,-25.04 -3.59,-25.04 ; -4,-23.22 -3.59,-23.22 ; -4,-22.5 -3.59,-22.5 ; -4,-20.68 -3.59,-20.68 ; -4,-19.96 -3.59,-19.96 ; -4,-18.14 -3.59,-18.14 ; -4,-17.42 -3.59,-17.42 ; -4,-15.6 -3.59,-15.6 ; -4,-14.88 -3.59,-14.88 ; -4,-13.06 -3.59,-13.06 ; -4,-12.34 -3.59,-12.34 ; -4,-10.52 -3.59,-10.52 ; -4,-9.8 -3.59,-9.8 ; -4,-7.98 -3.59,-7.98 ; -4,-7.26 -3.59,-7.26 ; -4,-5.44 -3.59,-5.44 ; -4,-4.72 -3.59,-4.72 ; -4,-2.9 -3.59,-2.9 ; -4,-2.18 -3.59,-2.18 ; -4,-0.36 -3.59,-0.36 ; -4,0.36 -3.59,0.36 ; -1.49,-43.54 -1.05,-43.54 ; -1.49,-42.82 -1.05,-42.82 ; -1.49,-41 -1.05,-41 ; -1.49,-40.28 -1.05,-40.28 ; -1.49,-38.46 -1.05,-38.46 ; -1.49,-37.74 -1.05,-37.74 ; -1.49,-35.92 -1.05,-35.92 ; -1.49,-35.2 -1.05,-35.2 ; -1.49,-33.38 -1.05,-33.38 ; -1.49,-32.66 -1.05,-32.66 ; -1.49,-30.84 -1.05,-30.84 ; -1.49,-30.12 -1.05,-30.12 ; -1.49,-28.3 -1.05,-28.3 ; -1.49,-27.58 -1.05,-27.58 ; -1.49,-25.76 -1.05,-25.76 ; -1.49,-25.04 -1.05,-25.04 ; -1.49,-23.22 -1.05,-23.22 ; -1.49,-22.5 -1.05,-22.5 ; -1.49,-20.68 -1.05,-20.68 ; -1.49,-19.96 -1.05,-19.96 ; -1.49,-18.14 -1.05,-18.14 ; -1.49,-17.42 -1.05,-17.42 ; -1.49,-15.6 -1.05,-15.6 ; -1.49,-14.88 -1.05,-14.88 ; -1.49,-13.06 -1.05,-13.06 ; -1.49,-12.34 -1.05,-12.34 ; -1.49,-10.52 -1.05,-10.52 ; -1.49,-9.8 -1.05,-9.8 ; -1.49,-7.98 -1.05,-7.98 ; -1.49,-7.26 -1.05,-7.26 ; -1.49,-5.44 -1.05,-5.44 ; -1.49,-4.72 -1.05,-4.72 ; -1.49,-2.9 -1.05,-2.9 ; -1.49,-2.18 -1.05,-2.18 ; -1.49,-0.36 -1.11,-0.36 ; -1.49,0.36 -1.11,0.36 ; 0,1.33 1.11,1.33 1.11,0 ; -12.63,-44.51 -4,-44.51 -4,1.33 -12.63,1.33 -12.63,-44.51
Top Assembly:
  lines w0.254: -4.06,-43.48 0,-43.48 0,-42.88 -4.06,-42.88 ; -4.06,-40.94 0,-40.94 0,-40.34 -4.06,-40.34 ; -4.06,-38.4 0,-38.4 0,-37.8 -4.06,-37.8 ; -4.06,-35.86 0,-35.86 0,-35.26 -4.06,-35.26 ; -4.06,-33.32 0,-33.32 0,-32.72 -4.06,-32.72 ; -4.06,-30.78 0,-30.78 0,-30.18 -4.06,-30.18 ; -4.06,-28.24 0,-28.24 0,-27.64 -4.06,-27.64 ; -4.06,-25.7 0,-25.7 0,-25.1 -4.06,-25.1 ; -4.06,-23.16 0,-23.16 0,-22.56 -4.06,-22.56 ; -4.06,-20.62 0,-20.62 0,-20.02 -4.06,-20.02 ; -4.06,-18.08 0,-18.08 0,-17.48 -4.06,-17.48 ; -4.06,-15.54 0,-15.54 0,-14.94 -4.06,-14.94 ; -4.06,-13 0,-13 0,-12.4 -4.06,-12.4 ; -4.06,-10.46 0,-10.46 0,-9.86 -4.06,-9.86 ; -4.06,-7.92 0,-7.92 0,-7.32 -4.06,-7.32 ; -4.06,-5.38 0,-5.38 0,-4.78 -4.06,-4.78 ; -4.06,-2.84 0,-2.84 0,-2.24 -4.06,-2.24 ; -4.06,-0.3 0,-0.3 0,0.3 -4.06,0.3 ; -4.06,0.3 -4.06,-44.45 -12.57,-44.45 -12.57,1.27 -5.03,1.27 -4.06,0.3
  text "'.Designator'" at -7.475,-25.637 h1
Top Courtyard:
  lines w0.254: -13.05,-44.95 1.8,-44.95 1.8,1.8 -13.05,1.8 -13.05,-44.95
Top Designator:
  text ".Designator" at -13.243,-22.083 h1.52

## PinSocket_2x18_P2.54mm_Vertical [mm]
pads (36):
  rect 1.7x1.7 hole 1: 1(0,0)
  round 1.7 hole 1: 2(-2.54,0) 3(0,-2.54) 4(-2.54,-2.54) 5(0,-5.08) 6(-2.54,-5.08) 7(0,-7.62) 8(-2.54,-7.62) 9(0,-10.16) 10(-2.54,-10.16) 11(0,-12.7) 12(-2.54,-12.7) 13(0,-15.24) 14(-2.54,-15.24) 15(0,-17.78) 16(-2.54,-17.78) 17(0,-20.32) 18(-2.54,-20.32) 19(0,-22.86) 20(-2.54,-22.86) 21(0,-25.4) 22(-2.54,-25.4) 23(0,-27.94) 24(-2.54,-27.94) 25(0,-30.48) 26(-2.54,-30.48) 27(0,-33.02) 28(-2.54,-33.02) 29(0,-35.56) 30(-2.54,-35.56) 31(0,-38.1) 32(-2.54,-38.1) 33(0,-40.64) 34(-2.54,-40.64) 35(0,-43.18) 36(-2.54,-43.18)
F.SilkS:
  lines w0.254: 0,1.33 1.33,1.33 1.33,0 ; -3.87,-44.51 1.33,-44.51 1.33,-1.27 -1.27,-1.27 -1.27,1.33 -3.87,1.33 -3.87,-44.51
Top Assembly:
  lines w0.254: -3.81,-44.45 1.27,-44.45 1.27,0.27 0.27,1.27 -3.81,1.27 -3.81,-44.45
  text "'.Designator'" at -0.43,-25.637 h1
Top Courtyard:
  lines w0.254: -4.34,-44.95 1.76,-44.95 1.76,1.8 -4.34,1.8 -4.34,-44.95
Top Designator:
  text ".Designator" at -8.908,-22.083 h1.52

## PinSocket_2x18_P2.54mm_Vertical_SMD [mm]
pads (36):
  rect 3x1 smd: 1(2.52,21.59) 2(-2.52,21.59) 3(2.52,19.05) 4(-2.52,19.05) 5(2.52,16.51) 6(-2.52,16.51) 7(2.52,13.97) 8(-2.52,13.97) 9(2.52,11.43) 10(-2.52,11.43) 11(2.52,8.89) 12(-2.52,8.89) 13(2.52,6.35) 14(-2.52,6.35) 15(2.52,3.81) 16(-2.52,3.81) 17(2.52,1.27) 18(-2.52,1.27) 19(2.52,-1.27) 20(-2.52,-1.27) 21(2.52,-3.81) 22(-2.52,-3.81) 23(2.52,-6.35) 24(-2.52,-6.35) 25(2.52,-8.89) 26(-2.52,-8.89) 27(2.52,-11.43) 28(-2.52,-11.43) 29(2.52,-13.97) 30(-2.52,-13.97) 31(2.52,-16.51) 32(-2.52,-16.51) 33(2.52,-19.05) 34(-2.52,-19.05) 35(2.52,-21.59) 36(-2.52,-21.59)
F.SilkS:
  lines w0.254: -2.6,-22.35 -2.6,-22.92 2.6,-22.92 2.6,-22.35 ; -2.6,-20.83 -2.6,-19.81 ; -2.6,-18.29 -2.6,-17.27 ; -2.6,-15.75 -2.6,-14.73 ; -2.6,-13.21 -2.6,-12.19 ; -2.6,-10.67 -2.6,-9.65 ; -2.6,-8.13 -2.6,-7.11 ; -2.6,-5.59 -2.6,-4.57 ; -2.6,-3.05 -2.6,-2.03 ; -2.6,-0.51 -2.6,0.51 ; -2.6,2.03 -2.6,3.05 ; -2.6,4.57 -2.6,5.59 ; -2.6,7.11 -2.6,8.13 ; -2.6,9.65 -2.6,10.67 ; -2.6,12.19 -2.6,13.21 ; -2.6,14.73 -2.6,15.75 ; -2.6,17.27 -2.6,18.29 ; -2.6,19.81 -2.6,20.83 ; -2.6,22.35 -2.6,22.92 2.6,22.92 2.6,22.35 3.96,22.35 ; 2.6,-20.83 2.6,-19.81 ; 2.6,-18.29 2.6,-17.27 ; 2.6,-15.75 2.6,-14.73 ; 2.6,-13.21 2.6,-12.19 ; 2.6,-10.67 2.6,-9.65 ; 2.6,-8.13 2.6,-7.11 ; 2.6,-5.59 2.6,-4.57 ; 2.6,-3.05 2.6,-2.03 ; 2.6,-0.51 2.6,0.51 ; 2.6,2.03 2.6,3.05 ; 2.6,4.57 2.6,5.59 ; 2.6,7.11 2.6,8.13 ; 2.6,9.65 2.6,10.67 ; 2.6,12.19 2.6,13.21 ; 2.6,14.73 2.6,15.75 ; 2.6,17.27 2.6,18.29 ; 2.6,19.81 2.6,20.83
Top Assembly:
  lines w0.254: -2.54,-21.91 -3.92,-21.91 -3.92,-21.27 -2.54,-21.27 ; -2.54,-19.37 -3.92,-19.37 -3.92,-18.73 -2.54,-18.73 ; -2.54,-16.83 -3.92,-16.83 -3.92,-16.19 -2.54,-16.19 ; -2.54,-14.29 -3.92,-14.29 -3.92,-13.65 -2.54,-13.65 ; -2.54,-11.75 -3.92,-11.75 -3.92,-11.11 -2.54,-11.11 ; -2.54,-9.21 -3.92,-9.21 -3.92,-8.57 -2.54,-8.57 ; -2.54,-6.67 -3.92,-6.67 -3.92,-6.03 -2.54,-6.03 ; -2.54,-4.13 -3.92,-4.13 -3.92,-3.49 -2.54,-3.49 ; -2.54,-1.59 -3.92,-1.59 -3.92,-0.95 -2.54,-0.95 ; -2.54,0.95 -3.92,0.95 -3.92,1.59 -2.54,1.59 ; -2.54,3.49 -3.92,3.49 -3.92,4.13 -2.54,4.13 ; -2.54,6.03 -3.92,6.03 -3.92,6.67 -2.54,6.67 ; -2.54,8.57 -3.92,8.57 -3.92,9.21 -2.54,9.21 ; -2.54,11.11 -3.92,11.11 -3.92,11.75 -2.54,11.75 ; -2.54,13.65 -3.92,13.65 -3.92,14.29 -2.54,14.29 ; -2.54,16.19 -3.92,16.19 -3.92,16.83 -2.54,16.83 ; -2.54,18.73 -3.92,18.73 -3.92,19.37 -2.54,19.37 ; -2.54,21.27 -3.92,21.27 -3.92,21.91 -2.54,21.91 ; 2.54,-21.91 3.92,-21.91 3.92,-21.27 2.54,-21.27 ; 2.54,-19.37 3.92,-19.37 3.92,-18.73 2.54,-18.73 ; 2.54,-16.83 3.92,-16.83 3.92,-16.19 2.54,-16.19 ; 2.54,-14.29 3.92,-14.29 3.92,-13.65 2.54,-13.65 ; 2.54,-11.75 3.92,-11.75 3.92,-11.11 2.54,-11.11 ; 2.54,-9.21 3.92,-9.21 3.92,-8.57 2.54,-8.57 ; 2.54,-6.67 3.92,-6.67 3.92,-6.03 2.54,-6.03 ; 2.54,-4.13 3.92,-4.13 3.92,-3.49 2.54,-3.49 ; 2.54,-1.59 3.92,-1.59 3.92,-0.95 2.54,-0.95 ; 2.54,0.95 3.92,0.95 3.92,1.59 2.54,1.59 ; 2.54,3.49 3.92,3.49 3.92,4.13 2.54,4.13 ; 2.54,6.03 3.92,6.03 3.92,6.67 2.54,6.67 ; 2.54,8.57 3.92,8.57 3.92,9.21 2.54,9.21 ; 2.54,11.11 3.92,11.11 3.92,11.75 2.54,11.75 ; 2.54,13.65 3.92,13.65 3.92,14.29 2.54,14.29 ; 2.54,16.19 3.92,16.19 3.92,16.83 2.54,16.83 ; 2.54,18.73 3.92,18.73 3.92,19.37 2.54,19.37 ; 2.54,21.27 3.92,21.27 3.92,21.91 2.54,21.91 ; -2.54,-22.86 2.54,-22.86 2.54,21.86 1.54,22.86 -2.54,22.86 -2.54,-22.86
  text "'.Designator'" at 0.84,-4.047 h1
Top Courtyard:
  lines w0.254: -4.55,-23.35 4.5,-23.35 4.5,23.4 -4.55,23.4 -4.55,-23.35
Top Designator:
  text ".Designator" at -7.643,-0.483 h1.52

## PinSocket_2x19_P2.54mm_Horizontal [mm]
pads (38):
  rect 1.7x1.7 hole 1: 1(0,0)
  round 1.7 hole 1: 2(-2.54,0) 3(0,-2.54) 4(-2.54,-2.54) 5(0,-5.08) 6(-2.54,-5.08) 7(0,-7.62) 8(-2.54,-7.62) 9(0,-10.16) 10(-2.54,-10.16) 11(0,-12.7) 12(-2.54,-12.7) 13(0,-15.24) 14(-2.54,-15.24) 15(0,-17.78) 16(-2.54,-17.78) 17(0,-20.32) 18(-2.54,-20.32) 19(0,-22.86) 20(-2.54,-22.86) 21(0,-25.4) 22(-2.54,-25.4) 23(0,-27.94) 24(-2.54,-27.94) 25(0,-30.48) 26(-2.54,-30.48) 27(0,-33.02) 28(-2.54,-33.02) 29(0,-35.56) 30(-2.54,-35.56) 31(0,-38.1) 32(-2.54,-38.1) 33(0,-40.64) 34(-2.54,-40.64) 35(0,-43.18) 36(-2.54,-43.18) 37(0,-45.72) 38(-2.54,-45.72)
F.SilkS:
  lines w0.254: -12.63,-44.45 -4,-44.45 ; -12.63,-41.91 -4,-41.91 ; -12.63,-39.37 -4,-39.37 ; -12.63,-36.83 -4,-36.83 ; -12.63,-34.29 -4,-34.29 ; -12.63,-31.75 -4,-31.75 ; -12.63,-29.21 -4,-29.21 ; -12.63,-26.67 -4,-26.67 ; -12.63,-24.13 -4,-24.13 ; -12.63,-21.59 -4,-21.59 ; -12.63,-19.05 -4,-19.05 ; -12.63,-16.51 -4,-16.51 ; -12.63,-13.97 -4,-13.97 ; -12.63,-11.43 -4,-11.43 ; -12.63,-8.89 -4,-8.89 ; -12.63,-6.35 -4,-6.35 ; -12.63,-3.81 -4,-3.81 ; -12.63,-1.27 -4,-1.27 ; -12.63,-1.152 -4,-1.152 ; -12.63,-1.034 -4,-1.034 ; -12.63,-0.916 -4,-0.916 ; -12.63,-0.798 -4,-0.798 ; -12.63,-0.68 -4,-0.68 ; -12.63,-0.561 -4,-0.561 ; -12.63,-0.443 -4,-0.443 ; -12.63,-0.325 -4,-0.325 ; -12.63,-0.207 -4,-0.207 ; -12.63,-0.089 -4,-0.089 ; -12.63,0.029 -4,0.029 ; -12.63,0.147 -4,0.147 ; -12.63,0.265 -4,0.265 ; -12.63,0.383 -4,0.383 ; -12.63,0.501 -4,0.501 ; -12.63,0.62 -4,0.62 ; -12.63,0.738 -4,0.738 ; -12.63,0.856 -4,0.856 ; -12.63,0.974 -4,0.974 ; -12.63,1.092 -4,1.092 ; -12.63,1.21 -4,1.21 ; -4,-46.08 -3.59,-46.08 ; -4,-45.36 -3.59,-45.36 ; -4,-43.54 -3.59,-43.54 ; -4,-42.82 -3.59,-42.82 ; -4,-41 -3.59,-41 ; -4,-40.28 -3.59,-40.28 ; -4,-38.46 -3.59,-38.46 ; -4,-37.74 -3.59,-37.74 ; -4,-35.92 -3.59,-35.92 ; -4,-35.2 -3.59,-35.2 ; -4,-33.38 -3.59,-33.38 ; -4,-32.66 -3.59,-32.66 ; -4,-30.84 -3.59,-30.84 ; -4,-30.12 -3.59,-30.12 ; -4,-28.3 -3.59,-28.3 ; -4,-27.58 -3.59,-27.58 ; -4,-25.76 -3.59,-25.76 ; -4,-25.04 -3.59,-25.04 ; -4,-23.22 -3.59,-23.22 ; -4,-22.5 -3.59,-22.5 ; -4,-20.68 -3.59,-20.68 ; -4,-19.96 -3.59,-19.96 ; -4,-18.14 -3.59,-18.14 ; -4,-17.42 -3.59,-17.42 ; -4,-15.6 -3.59,-15.6 ; -4,-14.88 -3.59,-14.88 ; -4,-13.06 -3.59,-13.06 ; -4,-12.34 -3.59,-12.34 ; -4,-10.52 -3.59,-10.52 ; -4,-9.8 -3.59,-9.8 ; -4,-7.98 -3.59,-7.98 ; -4,-7.26 -3.59,-7.26 ; -4,-5.44 -3.59,-5.44 ; -4,-4.72 -3.59,-4.72 ; -4,-2.9 -3.59,-2.9 ; -4,-2.18 -3.59,-2.18 ; -4,-0.36 -3.59,-0.36 ; -4,0.36 -3.59,0.36 ; -1.49,-46.08 -1.05,-46.08 ; -1.49,-45.36 -1.05,-45.36 ; -1.49,-43.54 -1.05,-43.54 ; -1.49,-42.82 -1.05,-42.82 ; -1.49,-41 -1.05,-41 ; -1.49,-40.28 -1.05,-40.28 ; -1.49,-38.46 -1.05,-38.46 ; -1.49,-37.74 -1.05,-37.74 ; -1.49,-35.92 -1.05,-35.92 ; -1.49,-35.2 -1.05,-35.2 ; -1.49,-33.38 -1.05,-33.38 ; -1.49,-32.66 -1.05,-32.66 ; -1.49,-30.84 -1.05,-30.84 ; -1.49,-30.12 -1.05,-30.12 ; -1.49,-28.3 -1.05,-28.3 ; -1.49,-27.58 -1.05,-27.58 ; -1.49,-25.76 -1.05,-25.76 ; -1.49,-25.04 -1.05,-25.04 ; -1.49,-23.22 -1.05,-23.22 ; -1.49,-22.5 -1.05,-22.5 ; -1.49,-20.68 -1.05,-20.68 ; -1.49,-19.96 -1.05,-19.96 ; -1.49,-18.14 -1.05,-18.14 ; -1.49,-17.42 -1.05,-17.42 ; -1.49,-15.6 -1.05,-15.6 ; -1.49,-14.88 -1.05,-14.88 ; -1.49,-13.06 -1.05,-13.06 ; -1.49,-12.34 -1.05,-12.34 ; -1.49,-10.52 -1.05,-10.52 ; -1.49,-9.8 -1.05,-9.8 ; -1.49,-7.98 -1.05,-7.98 ; -1.49,-7.26 -1.05,-7.26 ; -1.49,-5.44 -1.05,-5.44 ; -1.49,-4.72 -1.05,-4.72 ; -1.49,-2.9 -1.05,-2.9 ; -1.49,-2.18 -1.05,-2.18 ; -1.49,-0.36 -1.11,-0.36 ; -1.49,0.36 -1.11,0.36 ; 0,1.33 1.11,1.33 1.11,0 ; -12.63,-47.05 -4,-47.05 -4,1.33 -12.63,1.33 -12.63,-47.05
Top Assembly:
  lines w0.254: -4.06,-46.02 0,-46.02 0,-45.42 -4.06,-45.42 ; -4.06,-43.48 0,-43.48 0,-42.88 -4.06,-42.88 ; -4.06,-40.94 0,-40.94 0,-40.34 -4.06,-40.34 ; -4.06,-38.4 0,-38.4 0,-37.8 -4.06,-37.8 ; -4.06,-35.86 0,-35.86 0,-35.26 -4.06,-35.26 ; -4.06,-33.32 0,-33.32 0,-32.72 -4.06,-32.72 ; -4.06,-30.78 0,-30.78 0,-30.18 -4.06,-30.18 ; -4.06,-28.24 0,-28.24 0,-27.64 -4.06,-27.64 ; -4.06,-25.7 0,-25.7 0,-25.1 -4.06,-25.1 ; -4.06,-23.16 0,-23.16 0,-22.56 -4.06,-22.56 ; -4.06,-20.62 0,-20.62 0,-20.02 -4.06,-20.02 ; -4.06,-18.08 0,-18.08 0,-17.48 -4.06,-17.48 ; -4.06,-15.54 0,-15.54 0,-14.94 -4.06,-14.94 ; -4.06,-13 0,-13 0,-12.4 -4.06,-12.4 ; -4.06,-10.46 0,-10.46 0,-9.86 -4.06,-9.86 ; -4.06,-7.92 0,-7.92 0,-7.32 -4.06,-7.32 ; -4.06,-5.38 0,-5.38 0,-4.78 -4.06,-4.78 ; -4.06,-2.84 0,-2.84 0,-2.24 -4.06,-2.24 ; -4.06,-0.3 0,-0.3 0,0.3 -4.06,0.3 ; -4.06,0.3 -4.06,-46.99 -12.57,-46.99 -12.57,1.27 -5.03,1.27 -4.06,0.3
  text "'.Designator'" at -7.475,-26.907 h1
Top Courtyard:
  lines w0.254: -13.05,-47.55 1.8,-47.55 1.8,1.75 -13.05,1.75 -13.05,-47.55
Top Designator:
  text ".Designator" at -13.243,-23.408 h1.52

## PinSocket_2x19_P2.54mm_Vertical [mm]
pads (38):
  rect 1.7x1.7 hole 1: 1(0,0)
  round 1.7 hole 1: 2(-2.54,0) 3(0,-2.54) 4(-2.54,-2.54) 5(0,-5.08) 6(-2.54,-5.08) 7(0,-7.62) 8(-2.54,-7.62) 9(0,-10.16) 10(-2.54,-10.16) 11(0,-12.7) 12(-2.54,-12.7) 13(0,-15.24) 14(-2.54,-15.24) 15(0,-17.78) 16(-2.54,-17.78) 17(0,-20.32) 18(-2.54,-20.32) 19(0,-22.86) 20(-2.54,-22.86) 21(0,-25.4) 22(-2.54,-25.4) 23(0,-27.94) 24(-2.54,-27.94) 25(0,-30.48) 26(-2.54,-30.48) 27(0,-33.02) 28(-2.54,-33.02) 29(0,-35.56) 30(-2.54,-35.56) 31(0,-38.1) 32(-2.54,-38.1) 33(0,-40.64) 34(-2.54,-40.64) 35(0,-43.18) 36(-2.54,-43.18) 37(0,-45.72) 38(-2.54,-45.72)
F.SilkS:
  lines w0.254: 0,1.33 1.33,1.33 1.33,0 ; -3.87,-47.05 1.33,-47.05 1.33,-1.27 -1.27,-1.27 -1.27,1.33 -3.87,1.33 -3.87,-47.05
Top Assembly:
  lines w0.254: -3.81,-46.99 1.27,-46.99 1.27,0.27 0.27,1.27 -3.81,1.27 -3.81,-46.99
  text "'.Designator'" at -0.43,-26.907 h1
Top Courtyard:
  lines w0.254: -4.34,-47.5 1.76,-47.5 1.76,1.8 -4.34,1.8 -4.34,-47.5
Top Designator:
  text ".Designator" at -8.908,-23.358 h1.52

## PinSocket_2x19_P2.54mm_Vertical_SMD [mm]
pads (38):
  rect 3x1 smd: 1(2.52,22.86) 2(-2.52,22.86) 3(2.52,20.32) 4(-2.52,20.32) 5(2.52,17.78) 6(-2.52,17.78) 7(2.52,15.24) 8(-2.52,15.24) 9(2.52,12.7) 10(-2.52,12.7) 11(2.52,10.16) 12(-2.52,10.16) 13(2.52,7.62) 14(-2.52,7.62) 15(2.52,5.08) 16(-2.52,5.08) 17(2.52,2.54) 18(-2.52,2.54) 19(2.52,0) 20(-2.52,0) 21(2.52,-2.54) 22(-2.52,-2.54) 23(2.52,-5.08) 24(-2.52,-5.08) 25(2.52,-7.62) 26(-2.52,-7.62) 27(2.52,-10.16) 28(-2.52,-10.16) 29(2.52,-12.7) 30(-2.52,-12.7) 31(2.52,-15.24) 32(-2.52,-15.24) 33(2.52,-17.78) 34(-2.52,-17.78) 35(2.52,-20.32) 36(-2.52,-20.32) 37(2.52,-22.86) 38(-2.52,-22.86)
F.SilkS:
  lines w0.254: -2.6,-23.62 -2.6,-24.19 2.6,-24.19 2.6,-23.62 ; -2.6,-22.1 -2.6,-21.08 ; -2.6,-19.56 -2.6,-18.54 ; -2.6,-17.02 -2.6,-16 ; -2.6,-14.48 -2.6,-13.46 ; -2.6,-11.94 -2.6,-10.92 ; -2.6,-9.4 -2.6,-8.38 ; -2.6,-6.86 -2.6,-5.84 ; -2.6,-4.32 -2.6,-3.3 ; -2.6,-1.78 -2.6,-0.76 ; -2.6,0.76 -2.6,1.78 ; -2.6,3.3 -2.6,4.32 ; -2.6,5.84 -2.6,6.86 ; -2.6,8.38 -2.6,9.4 ; -2.6,10.92 -2.6,11.94 ; -2.6,13.46 -2.6,14.48 ; -2.6,16 -2.6,17.02 ; -2.6,18.54 -2.6,19.56 ; -2.6,21.08 -2.6,22.1 ; -2.6,23.62 -2.6,24.19 2.6,24.19 2.6,23.62 3.96,23.62 ; 2.6,-22.1 2.6,-21.08 ; 2.6,-19.56 2.6,-18.54 ; 2.6,-17.02 2.6,-16 ; 2.6,-14.48 2.6,-13.46 ; 2.6,-11.94 2.6,-10.92 ; 2.6,-9.4 2.6,-8.38 ; 2.6,-6.86 2.6,-5.84 ; 2.6,-4.32 2.6,-3.3 ; 2.6,-1.78 2.6,-0.76 ; 2.6,0.76 2.6,1.78 ; 2.6,3.3 2.6,4.32 ; 2.6,5.84 2.6,6.86 ; 2.6,8.38 2.6,9.4 ; 2.6,10.92 2.6,11.94 ; 2.6,13.46 2.6,14.48 ; 2.6,16 2.6,17.02 ; 2.6,18.54 2.6,19.56 ; 2.6,21.08 2.6,22.1
Top Assembly:
  lines w0.254: -2.54,-23.18 -3.92,-23.18 -3.92,-22.54 -2.54,-22.54 ; -2.54,-20.64 -3.92,-20.64 -3.92,-20 -2.54,-20 ; -2.54,-18.1 -3.92,-18.1 -3.92,-17.46 -2.54,-17.46 ; -2.54,-15.56 -3.92,-15.56 -3.92,-14.92 -2.54,-14.92 ; -2.54,-13.02 -3.92,-13.02 -3.92,-12.38 -2.54,-12.38 ; -2.54,-10.48 -3.92,-10.48 -3.92,-9.84 -2.54,-9.84 ; -2.54,-7.94 -3.92,-7.94 -3.92,-7.3 -2.54,-7.3 ; -2.54,-5.4 -3.92,-5.4 -3.92,-4.76 -2.54,-4.76 ; -2.54,-2.86 -3.92,-2.86 -3.92,-2.22 -2.54,-2.22 ; -2.54,-0.32 -3.92,-0.32 -3.92,0.32 -2.54,0.32 ; -2.54,2.22 -3.92,2.22 -3.92,2.86 -2.54,2.86 ; -2.54,4.76 -3.92,4.76 -3.92,5.4 -2.54,5.4 ; -2.54,7.3 -3.92,7.3 -3.92,7.94 -2.54,7.94 ; -2.54,9.84 -3.92,9.84 -3.92,10.48 -2.54,10.48 ; -2.54,12.38 -3.92,12.38 -3.92,13.02 -2.54,13.02 ; -2.54,14.92 -3.92,14.92 -3.92,15.56 -2.54,15.56 ; -2.54,17.46 -3.92,17.46 -3.92,18.1 -2.54,18.1 ; -2.54,20 -3.92,20 -3.92,20.64 -2.54,20.64 ; -2.54,22.54 -3.92,22.54 -3.92,23.18 -2.54,23.18 ; 2.54,-23.18 3.92,-23.18 3.92,-22.54 2.54,-22.54 ; 2.54,-20.64 3.92,-20.64 3.92,-20 2.54,-20 ; 2.54,-18.1 3.92,-18.1 3.92,-17.46 2.54,-17.46 ; 2.54,-15.56 3.92,-15.56 3.92,-14.92 2.54,-14.92 ; 2.54,-13.02 3.92,-13.02 3.92,-12.38 2.54,-12.38 ; 2.54,-10.48 3.92,-10.48 3.92,-9.84 2.54,-9.84 ; 2.54,-7.94 3.92,-7.94 3.92,-7.3 2.54,-7.3 ; 2.54,-5.4 3.92,-5.4 3.92,-4.76 2.54,-4.76 ; 2.54,-2.86 3.92,-2.86 3.92,-2.22 2.54,-2.22 ; 2.54,-0.32 3.92,-0.32 3.92,0.32 2.54,0.32 ; 2.54,2.22 3.92,2.22 3.92,2.86 2.54,2.86 ; 2.54,4.76 3.92,4.76 3.92,5.4 2.54,5.4 ; 2.54,7.3 3.92,7.3 3.92,7.94 2.54,7.94 ; 2.54,9.84 3.92,9.84 3.92,10.48 2.54,10.48 ; 2.54,12.38 3.92,12.38 3.92,13.02 2.54,13.02 ; 2.54,14.92 3.92,14.92 3.92,15.56 2.54,15.56 ; 2.54,17.46 3.92,17.46 3.92,18.1 2.54,18.1 ; 2.54,20 3.92,20 3.92,20.64 2.54,20.64 ; 2.54,22.54 3.92,22.54 3.92,23.18 2.54,23.18 ; -2.54,-24.13 2.54,-24.13 2.54,23.13 1.54,24.13 -2.54,24.13 -2.54,-24.13
  text "'.Designator'" at 0.84,-4.047 h1
Top Courtyard:
  lines w0.254: -4.55,-24.65 4.5,-24.65 4.5,24.65 -4.55,24.65 -4.55,-24.65
Top Designator:
  text ".Designator" at -7.643,-0.508 h1.52

## PinSocket_2x20_P2.54mm_Horizontal [mm]
pads (40):
  rect 1.7x1.7 hole 1: 1(0,0)
  round 1.7 hole 1: 2(-2.54,0) 3(0,-2.54) 4(-2.54,-2.54) 5(0,-5.08) 6(-2.54,-5.08) 7(0,-7.62) 8(-2.54,-7.62) 9(0,-10.16) 10(-2.54,-10.16) 11(0,-12.7) 12(-2.54,-12.7) 13(0,-15.24) 14(-2.54,-15.24) 15(0,-17.78) 16(-2.54,-17.78) 17(0,-20.32) 18(-2.54,-20.32) 19(0,-22.86) 20(-2.54,-22.86) 21(0,-25.4) 22(-2.54,-25.4) 23(0,-27.94) 24(-2.54,-27.94) 25(0,-30.48) 26(-2.54,-30.48) 27(0,-33.02) 28(-2.54,-33.02) 29(0,-35.56) 30(-2.54,-35.56) 31(0,-38.1) 32(-2.54,-38.1) 33(0,-40.64) 34(-2.54,-40.64) 35(0,-43.18) 36(-2.54,-43.18) 37(0,-45.72) 38(-2.54,-45.72) 39(0,-48.26) 40(-2.54,-48.26)
F.SilkS:
  lines w0.254: -12.63,-46.99 -4,-46.99 ; -12.63,-44.45 -4,-44.45 ; -12.63,-41.91 -4,-41.91 ; -12.63,-39.37 -4,-39.37 ; -12.63,-36.83 -4,-36.83 ; -12.63,-34.29 -4,-34.29 ; -12.63,-31.75 -4,-31.75 ; -12.63,-29.21 -4,-29.21 ; -12.63,-26.67 -4,-26.67 ; -12.63,-24.13 -4,-24.13 ; -12.63,-21.59 -4,-21.59 ; -12.63,-19.05 -4,-19.05 ; -12.63,-16.51 -4,-16.51 ; -12.63,-13.97 -4,-13.97 ; -12.63,-11.43 -4,-11.43 ; -12.63,-8.89 -4,-8.89 ; -12.63,-6.35 -4,-6.35 ; -12.63,-3.81 -4,-3.81 ; -12.63,-1.27 -4,-1.27 ; -12.63,-1.152 -4,-1.152 ; -12.63,-1.034 -4,-1.034 ; -12.63,-0.916 -4,-0.916 ; -12.63,-0.798 -4,-0.798 ; -12.63,-0.68 -4,-0.68 ; -12.63,-0.561 -4,-0.561 ; -12.63,-0.443 -4,-0.443 ; -12.63,-0.325 -4,-0.325 ; -12.63,-0.207 -4,-0.207 ; -12.63,-0.089 -4,-0.089 ; -12.63,0.029 -4,0.029 ; -12.63,0.147 -4,0.147 ; -12.63,0.265 -4,0.265 ; -12.63,0.383 -4,0.383 ; -12.63,0.501 -4,0.501 ; -12.63,0.62 -4,0.62 ; -12.63,0.738 -4,0.738 ; -12.63,0.856 -4,0.856 ; -12.63,0.974 -4,0.974 ; -12.63,1.092 -4,1.092 ; -12.63,1.21 -4,1.21 ; -4,-48.62 -3.59,-48.62 ; -4,-47.9 -3.59,-47.9 ; -4,-46.08 -3.59,-46.08 ; -4,-45.36 -3.59,-45.36 ; -4,-43.54 -3.59,-43.54 ; -4,-42.82 -3.59,-42.82 ; -4,-41 -3.59,-41 ; -4,-40.28 -3.59,-40.28 ; -4,-38.46 -3.59,-38.46 ; -4,-37.74 -3.59,-37.74 ; -4,-35.92 -3.59,-35.92 ; -4,-35.2 -3.59,-35.2 ; -4,-33.38 -3.59,-33.38 ; -4,-32.66 -3.59,-32.66 ; -4,-30.84 -3.59,-30.84 ; -4,-30.12 -3.59,-30.12 ; -4,-28.3 -3.59,-28.3 ; -4,-27.58 -3.59,-27.58 ; -4,-25.76 -3.59,-25.76 ; -4,-25.04 -3.59,-25.04 ; -4,-23.22 -3.59,-23.22 ; -4,-22.5 -3.59,-22.5 ; -4,-20.68 -3.59,-20.68 ; -4,-19.96 -3.59,-19.96 ; -4,-18.14 -3.59,-18.14 ; -4,-17.42 -3.59,-17.42 ; -4,-15.6 -3.59,-15.6 ; -4,-14.88 -3.59,-14.88 ; -4,-13.06 -3.59,-13.06 ; -4,-12.34 -3.59,-12.34 ; -4,-10.52 -3.59,-10.52 ; -4,-9.8 -3.59,-9.8 ; -4,-7.98 -3.59,-7.98 ; -4,-7.26 -3.59,-7.26 ; -4,-5.44 -3.59,-5.44 ; -4,-4.72 -3.59,-4.72 ; -4,-2.9 -3.59,-2.9 ; -4,-2.18 -3.59,-2.18 ; -4,-0.36 -3.59,-0.36 ; -4,0.36 -3.59,0.36 ; -1.49,-48.62 -1.05,-48.62 ; -1.49,-47.9 -1.05,-47.9 ; -1.49,-46.08 -1.05,-46.08 ; -1.49,-45.36 -1.05,-45.36 ; -1.49,-43.54 -1.05,-43.54 ; -1.49,-42.82 -1.05,-42.82 ; -1.49,-41 -1.05,-41 ; -1.49,-40.28 -1.05,-40.28 ; -1.49,-38.46 -1.05,-38.46 ; -1.49,-37.74 -1.05,-37.74 ; -1.49,-35.92 -1.05,-35.92 ; -1.49,-35.2 -1.05,-35.2 ; -1.49,-33.38 -1.05,-33.38 ; -1.49,-32.66 -1.05,-32.66 ; -1.49,-30.84 -1.05,-30.84 ; -1.49,-30.12 -1.05,-30.12 ; -1.49,-28.3 -1.05,-28.3 ; -1.49,-27.58 -1.05,-27.58 ; -1.49,-25.76 -1.05,-25.76 ; -1.49,-25.04 -1.05,-25.04 ; -1.49,-23.22 -1.05,-23.22 ; -1.49,-22.5 -1.05,-22.5 ; -1.49,-20.68 -1.05,-20.68 ; -1.49,-19.96 -1.05,-19.96 ; -1.49,-18.14 -1.05,-18.14 ; -1.49,-17.42 -1.05,-17.42 ; -1.49,-15.6 -1.05,-15.6 ; -1.49,-14.88 -1.05,-14.88 ; -1.49,-13.06 -1.05,-13.06 ; -1.49,-12.34 -1.05,-12.34 ; -1.49,-10.52 -1.05,-10.52 ; -1.49,-9.8 -1.05,-9.8 ; -1.49,-7.98 -1.05,-7.98 ; -1.49,-7.26 -1.05,-7.26 ; -1.49,-5.44 -1.05,-5.44 ; -1.49,-4.72 -1.05,-4.72 ; -1.49,-2.9 -1.05,-2.9 ; -1.49,-2.18 -1.05,-2.18 ; -1.49,-0.36 -1.11,-0.36 ; -1.49,0.36 -1.11,0.36 ; 0,1.33 1.11,1.33 1.11,0 ; -12.63,-49.59 -4,-49.59 -4,1.33 -12.63,1.33 -12.63,-49.59
Top Assembly:
  lines w0.254: -4.06,-48.56 0,-48.56 0,-47.96 -4.06,-47.96 ; -4.06,-46.02 0,-46.02 0,-45.42 -4.06,-45.42 ; -4.06,-43.48 0,-43.48 0,-42.88 -4.06,-42.88 ; -4.06,-40.94 0,-40.94 0,-40.34 -4.06,-40.34 ; -4.06,-38.4 0,-38.4 0,-37.8 -4.06,-37.8 ; -4.06,-35.86 0,-35.86 0,-35.26 -4.06,-35.26 ; -4.06,-33.32 0,-33.32 0,-32.72 -4.06,-32.72 ; -4.06,-30.78 0,-30.78 0,-30.18 -4.06,-30.18 ; -4.06,-28.24 0,-28.24 0,-27.64 -4.06,-27.64 ; -4.06,-25.7 0,-25.7 0,-25.1 -4.06,-25.1 ; -4.06,-23.16 0,-23.16 0,-22.56 -4.06,-22.56 ; -4.06,-20.62 0,-20.62 0,-20.02 -4.06,-20.02 ; -4.06,-18.08 0,-18.08 0,-17.48 -4.06,-17.48 ; -4.06,-15.54 0,-15.54 0,-14.94 -4.06,-14.94 ; -4.06,-13 0,-13 0,-12.4 -4.06,-12.4 ; -4.06,-10.46 0,-10.46 0,-9.86 -4.06,-9.86 ; -4.06,-7.92 0,-7.92 0,-7.32 -4.06,-7.32 ; -4.06,-5.38 0,-5.38 0,-4.78 -4.06,-4.78 ; -4.06,-2.84 0,-2.84 0,-2.24 -4.06,-2.24 ; -4.06,-0.3 0,-0.3 0,0.3 -4.06,0.3 ; -4.06,0.3 -4.06,-49.53 -12.57,-49.53 -12.57,1.27 -5.03,1.27 -4.06,0.3
  text "'.Designator'" at -7.475,-28.177 h1
Top Courtyard:
  lines w0.254: -13.05,-50.05 1.8,-50.05 1.8,1.75 -13.05,1.75 -13.05,-50.05
Top Designator:
  text ".Designator" at -13.243,-24.658 h1.52

## PinSocket_2x20_P2.54mm_Vertical [mm]
pads (40):
  rect 1.7x1.7 hole 1: 1(0,0)
  round 1.7 hole 1: 2(-2.54,0) 3(0,-2.54) 4(-2.54,-2.54) 5(0,-5.08) 6(-2.54,-5.08) 7(0,-7.62) 8(-2.54,-7.62) 9(0,-10.16) 10(-2.54,-10.16) 11(0,-12.7) 12(-2.54,-12.7) 13(0,-15.24) 14(-2.54,-15.24) 15(0,-17.78) 16(-2.54,-17.78) 17(0,-20.32) 18(-2.54,-20.32) 19(0,-22.86) 20(-2.54,-22.86) 21(0,-25.4) 22(-2.54,-25.4) 23(0,-27.94) 24(-2.54,-27.94) 25(0,-30.48) 26(-2.54,-30.48) 27(0,-33.02) 28(-2.54,-33.02) 29(0,-35.56) 30(-2.54,-35.56) 31(0,-38.1) 32(-2.54,-38.1) 33(0,-40.64) 34(-2.54,-40.64) 35(0,-43.18) 36(-2.54,-43.18) 37(0,-45.72) 38(-2.54,-45.72) 39(0,-48.26) 40(-2.54,-48.26)
F.SilkS:
  lines w0.254: 0,1.33 1.33,1.33 1.33,0 ; -3.87,-49.59 1.33,-49.59 1.33,-1.27 -1.27,-1.27 -1.27,1.33 -3.87,1.33 -3.87,-49.59
Top Assembly:
  lines w0.254: -3.81,-49.53 1.27,-49.53 1.27,0.27 0.27,1.27 -3.81,1.27 -3.81,-49.53
  text "'.Designator'" at -0.43,-28.177 h1
Top Courtyard:
  lines w0.254: -4.34,-50 1.76,-50 1.76,1.8 -4.34,1.8 -4.34,-50
Top Designator:
  text ".Designator" at -8.908,-24.608 h1.52